# Altium footprint library 67503-1020-USB.PcbLib: 1 footprints
Each footprint in its own frame and in the unit in brackets; x right, y up, seen from the top. Pads: shape width x height; smd on the part's side, far side on the other; paste and mask are expansions set on the pad; w line width, h text height; cw(c..) or ccw(c..) is an arc to the next point about the centre after c.
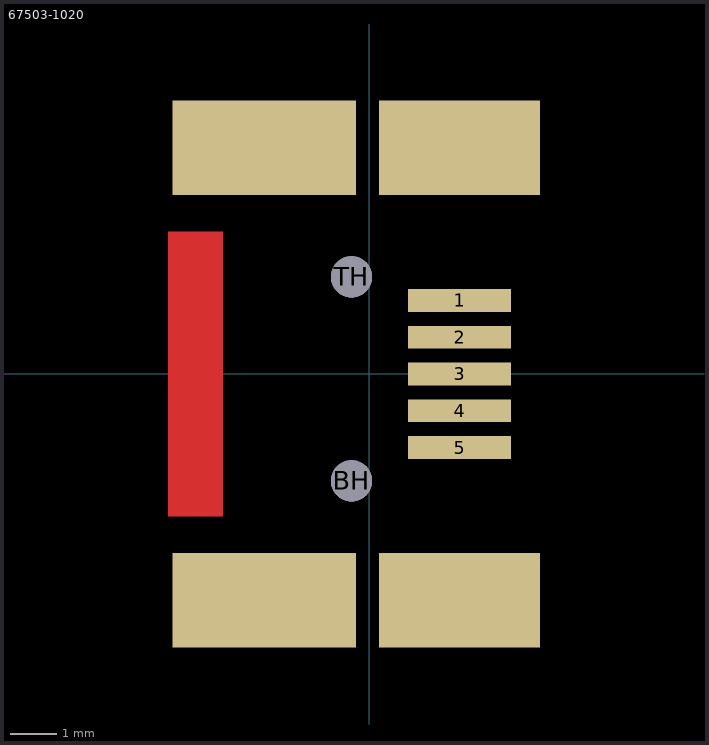
[diagram p0: the footprint, top view; thin cyan lines are the x and y axes]

## 67503-1020 [mm] "67503-1020 Horizontal USB"
pads (11):
  rect 2.25x0.5 all layers, no hole: 1(1.969,1.6) 2(1.969,0.8) 3(1.969,0) 4(1.969,-0.8) 5(1.969,-1.6)
  round 0.9 hole 0.9: BH(-0.381,-2.327) TH(-0.381,2.114)
  rect 4x2.05 all layers, no hole: ""(-2.281,-4.925) ""(-2.281,4.925)
  rect 3.5x2.05 all layers, no hole: ""(1.969,-4.925) ""(1.969,4.925)
Top Layer:
  rectangle: -4.375,-3.1 -3.175,3.1